# Altium footprint library Switch.PcbLib: 1 footprints
Each footprint in its own frame and in the unit in brackets; x right, y up, seen from the top. Pads: shape width x height; smd on the part's side, far side on the other; paste and mask are expansions set on the pad; w line width, h text height; cw(c..) or ccw(c..) is an arc to the next point about the centre after c.
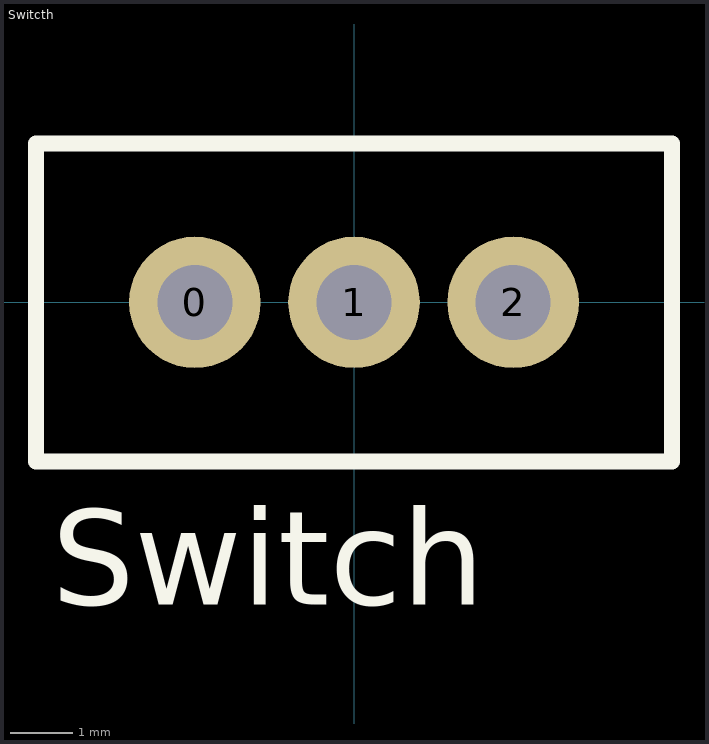
[diagram p0: the footprint, top view; thin cyan lines are the x and y axes]

## Switcth [mm]
pads (3):
  round 2.1 hole 1.2: 0(-2.54,0) 1(0,0) 2(2.54,0)
Top Overlay:
  lines w0.254: -5.08,-2.54 -5.08,0 -5.08,2.54 0,2.54 5.08,2.54 5.08,-2.54 0,-2.54 -5.08,-2.54
  text "Switch" at -4.826,-4.826 h1.52